# EAGLE library part TB6560AHQ (library TB6560AHQ)
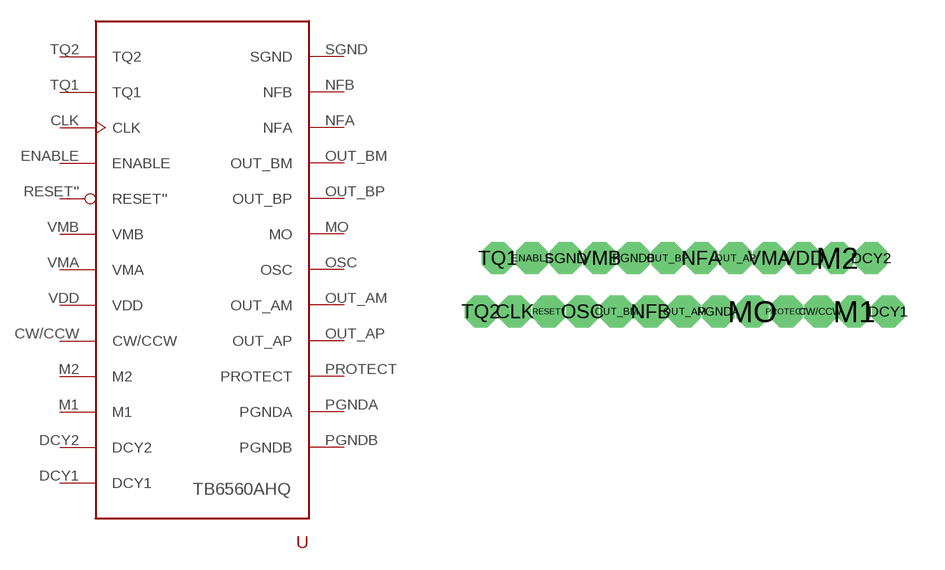
[diagram p0: symbol with the pads of TB6560AHQ; footprint TB6560AHQ]

Designator prefix -

## TB6560AHQ  [TB6560AHQ]
CLK  CLK  in
CW/CCW  CW/CCW  in
DCY1  DCY1  in
DCY2  DCY2  in
ENABLE  ENABLE  in
M1  M1  in
M2  M2  in
MO  MO  out
NFA  NFA
NFB  NFB
OSC  OSC
OUT_AM  OUT_AM  out
OUT_AP  OUT_AP  out
OUT_BM  OUT_BM  out
OUT_BP  OUT_BP  out
PGNDA  PGNDA
PGNDB  PGNDB
PROTECT  PROTECT  out
RESET''  RESET''  in
SGND  SGND
TQ1  TQ1  in
TQ2  TQ2  in
VDD  VDD  in
VMA  VMA  in
VMB  VMB  in

## Footprint TB6560AHQ (pad centres in mm)
drill 0.7 pad 1.016 octagon: CLK -6.35,-1; CW/CCW 5.08,-1; DCY1 7.62,-1; DCY2 6.985,1; ENABLE -5.715,1; M1 6.35,-1; M2 5.715,1; MO 2.54,-1; NFA 0.635,1; NFB -1.27,-1; OSC -3.81,-1; OUT_AM 0,-1; OUT_AP 1.905,1; OUT_BM -2.54,-1; OUT_BP -0.635,1; PGNDA 1.27,-1; PGNDB -1.905,1; PROTECT 3.81,-1; RESET'' -5.08,-1; SGND -4.445,1; TQ1 -6.985,1; TQ2 -7.62,-1; VDD 4.445,1; VMA 3.175,1; VMB -3.175,1